# Altium schematic symbol library SCH - DAC - MI MAX5186.SCHLIB: 1 symbol
Pins are listed as number, name and electrical type; pins without a type are passive.

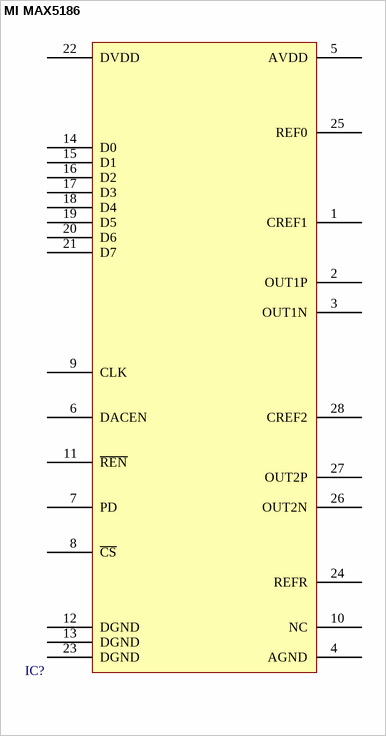
[diagram p0: symbol MI MAX5186]

## MI MAX5186
designator IC?
pins: 1 CREF1, 2 OUT1P, 3 OUT1N, 4 AGND, 5 AVDD, 6 DACEN, 7 PD, 8 ~{CS}, 9 CLK, 10 NC, 11 ~{REN}, 12 DGND, 13 DGND, 14 D0, 15 D1, 16 D2, 17 D3, 18 D4, 19 D5, 20 D6, 21 D7, 22 DVDD, 23 DGND, 24 REFR, 25 REF0, 26 OUT2N, 27 OUT2P, 28 CREF2